# Altium footprint library SOT229P700X180-4N.PcbLib: 1 footprints
Each footprint in its own frame and in the unit in brackets; x right, y up, seen from the top. Pads: shape width x height; smd on the part's side, far side on the other; paste and mask are expansions set on the pad; w line width, h text height; cw(c..) or ccw(c..) is an arc to the next point about the centre after c.
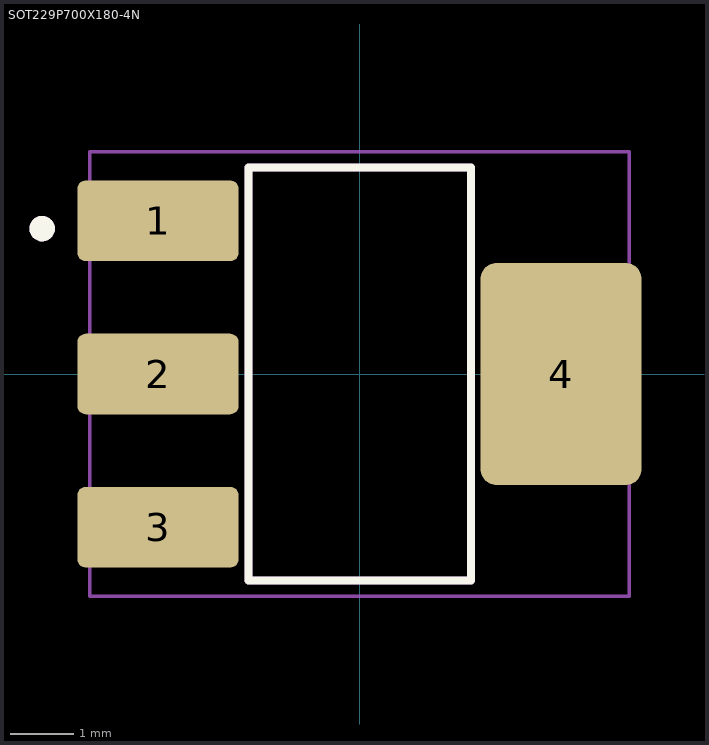
[diagram p0: the footprint, top view; thin cyan lines are the x and y axes]

## SOT229P700X180-4N [mil]
height 70.87
pads (4):
  rrect20% 100x50 smd: 1(-125,95) 2(-125,0) 3(-125,-95)
  rrect20% 100x137.8 smd: 4(125,0)
Top Overlay:
  circle w7.87: c-196.85,90.16 r3.94
  lines w5: -69,-128.05 69,-128.05 69,128.05 -69,128.05 -69,-128.05
Mechanical 13:
  circle w7.87: c-196.85,90.16 r3.94
  lines w5: -69,-128.05 69,-128.05 69,128.05 -69,128.05 -69,-128.05
Mechanical 15:
  lines w1.97: -167.32,-137.89 -167.32,137.89 167.32,137.89 167.32,-137.89 -167.32,-137.89
3D body "step_temp.STEP": height 71, standoff 0, extent -137.75,-128 137.75,128